# EAGLE library part NE602A (library dpaklib)
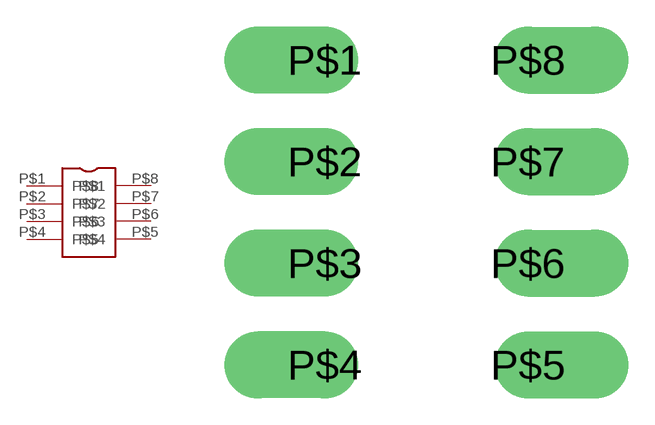
[diagram p0: symbol with the pads of DPAK; footprint DPAK]

Designator prefix -

## NE602A  [DPAK]
P$1  P$1
P$2  P$2
P$3  P$3
P$4  P$4
P$5  P$5
P$6  P$6
P$7  P$7
P$8  P$8

## Footprint DPAK (pad centres in mm)
drill 0.8 pad 1.676 offset: P$1 0,0; P$2 0,-2.54; P$3 0,-5.08; P$4 0,-7.62; P$5 5.08,-7.62; P$6 5.08,-5.08; P$7 5.08,-2.54; P$8 5.08,0